# Altium schematic symbol library SIMBOLS_MEMORY.SchLib: 20 symbols
Pins are listed as number, name and electrical type; pins without a type are passive.

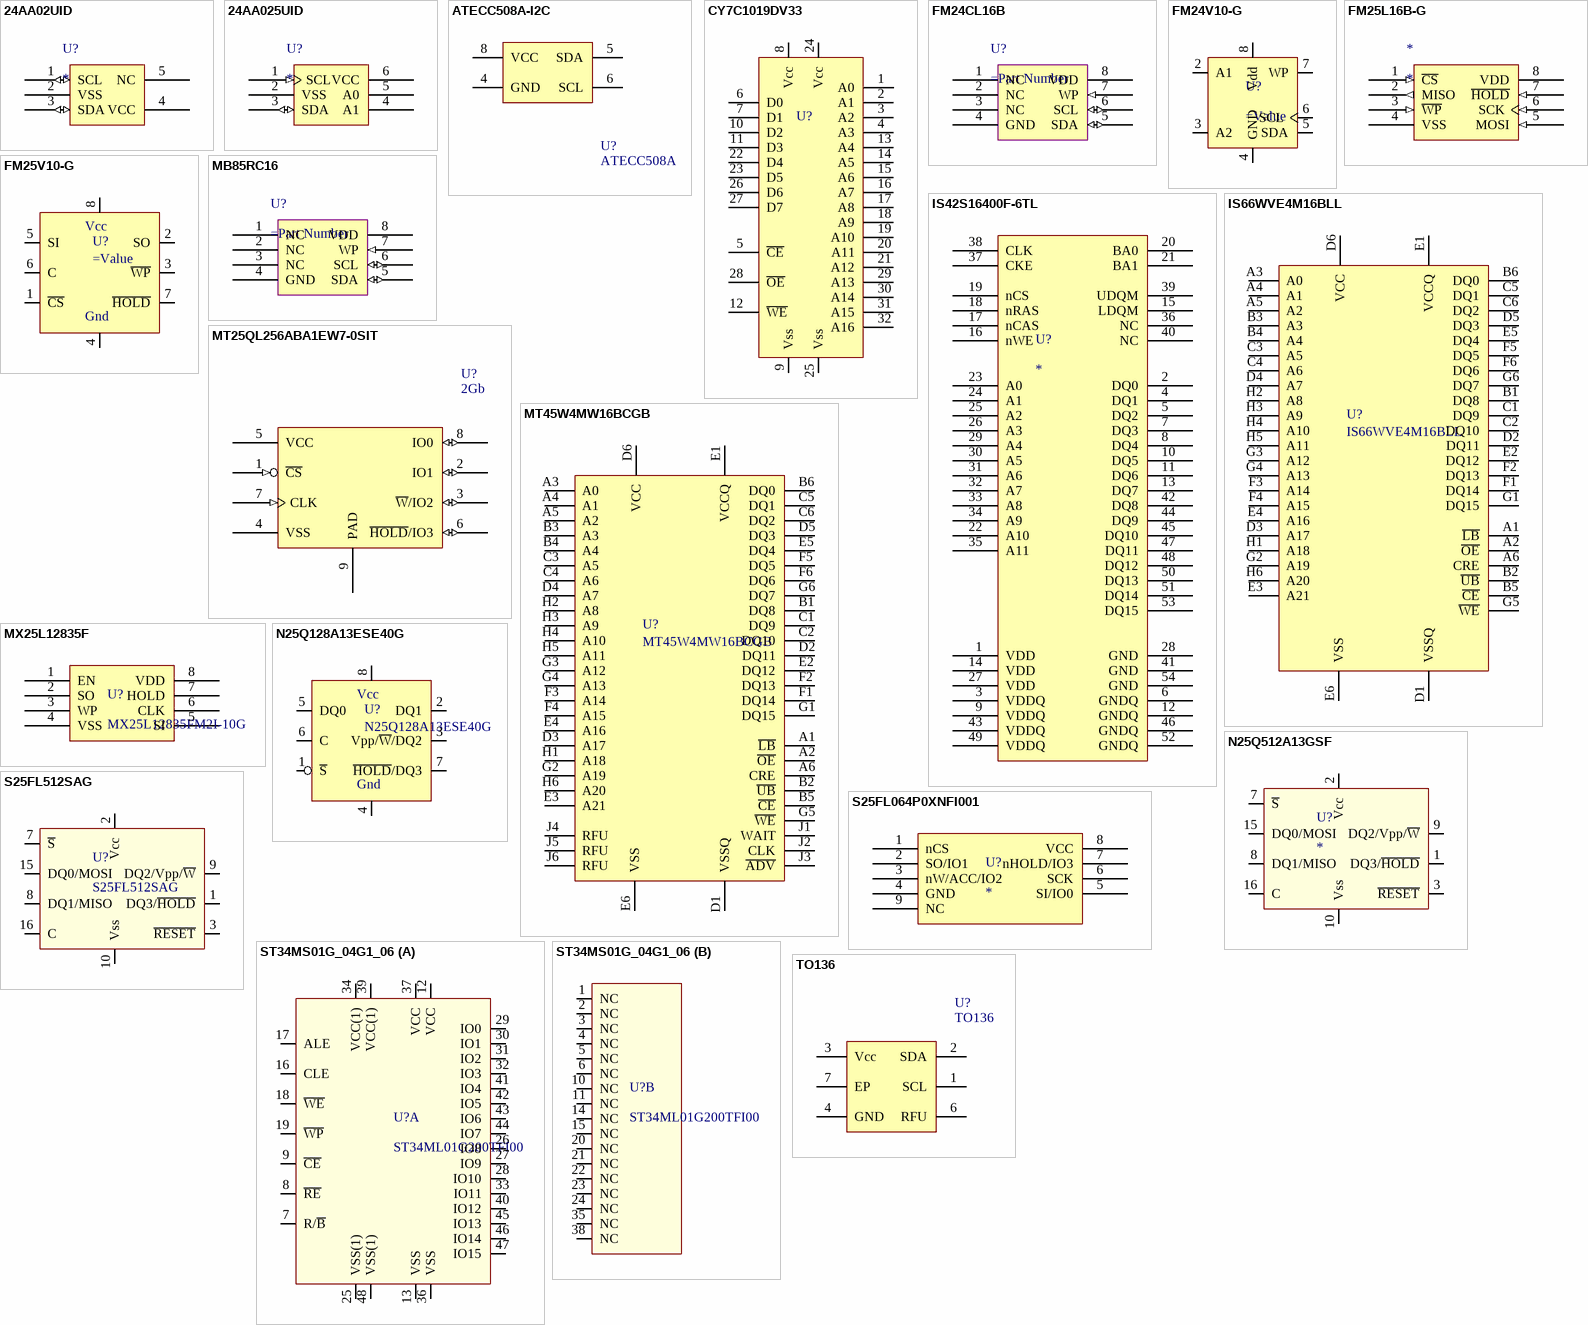
[diagram p0: symbols 24AA02UID to TO136]

## 24AA02UID
designator U?
pins: 1 SCL (io), 2 VSS (power), 3 SDA (io), 4 VCC (power), 5 NC

## 24AA025UID
designator U?
pins: 1 SCL (in), 2 VSS (power), 3 SDA (io), 4 A1, 5 A0, 6 VCC (power)

## ATECC508A-I2C
designator U?, comment ATECC508A
Atmel CryptoAuthentication Device High-Speed Public Key (PKI) Algorithms ECDSA,ECDH I2C; Part Number: ATECC508A-SSHDA-T; Code: ISR02010264; Part Type: CRYPTO; Value: ATECC508A; Library path: SIMBOLS_CPU_MCU.SCHLIB; Footprint path: SOIC_127P_N.PcbLib
footprint SOIC127P600-8AN
pins: 4 GND, 5 SDA, 6 SCL, 8 VCC

## CY7C1019DV33
designator U?  (value not drawn)
footprint V32 (SOJ, Molded; 32 Leads; Body Width 10.16 mm)
pins: 1 A0, 2 A1, 3 A2, 4 A3, 5 ~{CE}, 6 D0, 7 D1, 8 Vcc, 9 Vss, 10 D2, 11 D3, 12 ~{WE}, 13 A4, 14 A5, 15 A6, 16 A7, 17 A8, 18 A9, 19 A10, 20 A11, 21 A12, 22 D4, 23 D5, 24 Vcc, 25 Vss, 26 D6, 27 D7, 28 ~{OE}, 29 A13, 30 A14, 31 A15, 32 A16

## FM24CL16B
designator U?
pins: 1 NC, 2 NC, 3 NC, 4 GND (power), 5 SDA (io), 6 SCL (io), 7 WP (in), 8 VDD (power)

## FM24V10-G
designator U?
1-Mbit ferroelectric random access memory (F-RAM) logically  organized as 128K × 8 I2C
pins: 2 A1, 3 A2, 4 GND, 5 SDA, 6 SCL, 7 WP, 8 Vdd

## FM25L16B-G
designator *
pins: 1 ~{CS} (in), 2 MISO (out), 3 ~{WP} (in), 4 VSS (power), 5 MOSI (in), 6 SCK (in), 7 ~{HOLD} (in), 8 VDD (power)

## FM25V10-G
designator U?
1-Mbit ferroelectric random access memory (F-RAM) logically  organized as 128K × 8 SPI; Supplier 1: Farnell; Supplier Part Number 1: 2253682
footprint SO8W (Footprint not found)
pins: 1 ~{CS}, 2 SO, 3 ~{WP}, 4 GND, 5 SI, 6 C, 7 ~{HOLD}, 8 Vcc
text: Gnd

## IS42S16400F-6TL
designator U?
SDRAM 16bit
footprint SOP80P1176-54N (SOP, 54-Leads, Body 22.2x10.16mm, Pitch 0.8mm, IPC Medium Density)
pins: 1 VDD, 2 DQ0, 3 VDDQ, 4 DQ1, 5 DQ2, 6 GNDQ, 7 DQ3, 8 DQ4, 9 VDDQ, 10 DQ5, 11 DQ6, 12 GNDQ, 13 DQ7, 14 VDD, 15 LDQM, 16 nWE, 17 nCAS, 18 nRAS, 19 nCS, 20 BA0, 21 BA1, 22 A10, 23 A0, 24 A1, 25 A2, 26 A3, 27 VDD, 28 GND, 29 A4, 30 A5, 31 A6, 32 A7, 33 A8, 34 A9, 35 A11, 36 NC, 37 CKE, 38 CLK, 39 UDQM, 40 NC, 41 GND, 42 DQ8, 43 VDDQ, 44 DQ9, 45 DQ10, 46 GNDQ, 47 DQ11, 48 DQ12, 49 VDDQ, 50 DQ13, 51 DQ14, 52 GNDQ, 53 DQ15, 54 GND

## IS66WVE4M16BLL
designator U?
PSRAM 64Mb 1V8 - 2V95
pins: A1 ~{LB}, A2 ~{OE}, A3 A0, A4 A1, A5 A2, A6 CRE, B1 DQ8, B2 ~{UB}, B3 A3, B4 A4, B5 ~{CE}, B6 DQ0, C1 DQ9, C2 DQ10, C3 A5, C4 A6, C5 DQ1, C6 DQ2, D1 VSSQ, D2 DQ11, D3 A17, D4 A7, D5 DQ3, D6 VCC, E1 VCCQ, E2 DQ12, E3 A21, E4 A16, E5 DQ4, E6 VSS, F1 DQ14, F2 DQ13, F3 A14, F4 A15, F5 DQ5, F6 DQ6, G1 DQ15, G2 A19, G3 A12, G4 A13, G5 ~{WE}, G6 DQ7, H1 A18, H2 A8, H3 A9, H4 A10, H5 A11, H6 A20

## MB85RC16
designator U?
pins: 1 NC, 2 NC, 3 NC, 4 GND (power), 5 SDA (io), 6 SCL (io), 7 WP (in), 8 VDD (power)

## MT25QL256ABA1EW7-0SIT
designator U?, comment 2Gb
256Mb 3V, Multiple I/O, 4KB, 32KB, 64KB Sector Erase; Part Number: MT25QL256ABA1EW7-0SIT; Code: ISR09010030; Bus width: SERIAL; Speed: 133MHz; Part Type: SNORFLASH; Value: 2Gb; Library path: SIMBOLS_MEMORY.SCHLIB; Footprint path: BGA_Rect.PcbLib
footprint MT25QL256ABA1EW7-0SIT (QFN, 8-Leads, Body 6,00x5,00mm, Pitch 1,27mm, Thermal Pad 3,20x3,20mm, IPC Medium Density)
pins: 1 ~{CS} (in), 2 IO1 (io), 3 ~{W}/IO2 (io), 4 VSS (power), 5 VCC (power), 6 ~{HOLD}/IO3 (io), 7 CLK (in), 8 IO0 (io), 9 PAD

## MT45W4MW16BCGB
designator U?
PSRAM 64Mb 1V8 - 2V95
footprint VFBGA54 (Footprint not found)
pins: A1 ~{LB}, A2 ~{OE}, A3 A0, A4 A1, A5 A2, A6 CRE, B1 DQ8, B2 ~{UB}, B3 A3, B4 A4, B5 ~{CE}, B6 DQ0, C1 DQ9, C2 DQ10, C3 A5, C4 A6, C5 DQ1, C6 DQ2, D1 VSSQ, D2 DQ11, D3 A17, D4 A7, D5 DQ3, D6 VCC, E1 VCCQ, E2 DQ12, E3 A21, E4 A16, E5 DQ4, E6 VSS, F1 DQ14, F2 DQ13, F3 A14, F4 A15, F5 DQ5, F6 DQ6, G1 DQ15, G2 A19, G3 A12, G4 A13, G5 ~{WE}, G6 DQ7, H1 A18, H2 A8, H3 A9, H4 A10, H5 A11, H6 A20, J1 WAIT, J2 CLK, J3 ~{ADV}, J4 RFU, J5 RFU, J6 RFU

## MX25L12835F
designator U?, comment MX25L12835FM2I-10G
MULTIPLE I/O SERIAL NOR FLASH 3V 128Mb; Part Number: MX25L12835FM2I-10G
pins: 1 EN, 2 SO, 3 WP, 4 VSS, 5 SI, 6 CLK, 7 HOLD, 8 VDD

## N25Q128A13ESE40G
designator U?
FLASH, SERIE, 128 MB, 3V, 8WSOIC; Supplier 1: Farnell; Supplier Part Number 1: 2253682
footprint SO8W (Footprint not found)
pins: 1 ~{S}, 2 DQ1, 3 Vpp/~{W}/DQ2, 4 GND, 5 DQ0, 6 C, 7 ~{HOLD}/DQ3, 8 Vcc
text: Gnd

## N25Q512A13GSF
designator U?
MULTIPLE I/O SERIAL NOR FLASH 3V 512Mb
footprint SOP2-16 (Footprint not found)
pins: 1 DQ3/~{HOLD}, 2 Vcc, 3 ~{RESET}, 7 ~{S}, 8 DQ1/MISO, 9 DQ2/Vpp/~{W}, 10 Vss, 15 DQ0/MOSI, 16 C

## S25FL064P0XNFI001
designator U?
qspi flash
footprint SON127P600X800X90-9V (SON, 8-Leads, Body 6x8mm, Pitch 1.27mm)
pins: 1 nCS, 2 SO/IO1, 3 nW/ACC/IO2, 4 GND, 5 SI/IO0, 6 SCK, 7 nHOLD/IO3, 8 VCC, 9 NC

## S25FL512SAG
designator U?
MULTIPLE I/O SERIAL NOR FLASH 3V 512Mb
footprint SOIC-16 (Footprint not found)
pins: 1 DQ3/~{HOLD}, 2 Vcc, 3 ~{RESET}, 7 ~{S}, 8 DQ1/MISO, 9 DQ2/Vpp/~{W}, 10 Vss, 15 DQ0/MOSI, 16 C

## ST34MS01G_04G1_06
designator U?, comment ST34ML01G200TFI00
1Gb to 4Gb 8/16 NAND FLASH
footprint TSSOP40P1800-48M (TSSOP, 48-Leads, Body 10x16.4mm, Pitch 0.4mm, IPC Low Density)
part A pins: 7 R/~{B}, 8 ~{RE}, 9 ~{CE}, 12 VCC, 13 VSS, 16 CLE, 17 ALE, 18 ~{WE}, 19 ~{WP}, 25 VSS(1), 26 IO8, 27 IO9, 28 IO10, 29 IO0, 30 IO1, 31 IO2, 32 IO3, 33 IO11, 34 VCC(1), 36 VSS, 37 VCC, 39 VCC(1), 40 IO12, 41 IO4, 42 IO5, 43 IO6, 44 IO7, 45 IO13, 46 IO14, 47 IO15, 48 VSS(1)
part B pins: 1 NC, 2 NC, 3 NC, 4 NC, 5 NC, 6 NC, 10 NC, 11 NC, 14 NC, 15 NC, 20 NC, 21 NC, 22 NC, 23 NC, 24 NC, 35 NC, 38 NC

## TO136
designator U?
Xip de securitzacio de dades/comunicacions.; Code: ISR02010275; Part Number: TO136; Part Type: CRYPTO; Value: TO136; Library path: SIMBOLS_CPU_MCU.SCHLIB; Footprint path: FootprintsPersonals.PcbLib
footprint DFN6_3x3 0.65
pins: 1 SCL, 2 SDA, 3 Vcc, 4 GND, 6 RFU, 7 EP